# EAGLE library part AMPHENOL_24 (library CNTRL_BOARD)
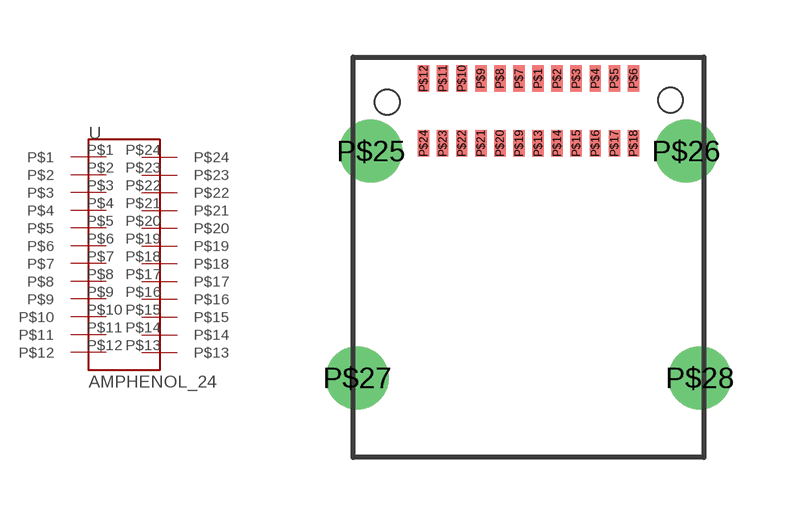
[diagram p12: symbol with the pads of 2X12; footprint 2X12]

Designator prefix -

## AMPHENOL_24  [2X12]
P$1  P$1
P$2  P$2
P$3  P$3
P$4  P$4
P$5  P$5
P$6  P$6
P$7  P$7
P$8  P$8
P$9  P$9
P$10  P$10
P$11  P$11
P$12  P$12
P$13  P$13
P$14  P$14
P$15  P$15
P$16  P$16
P$17  P$17
P$18  P$18
P$19  P$19
P$20  P$20
P$21  P$21
P$22  P$22
P$23  P$23
P$24  P$24

## Footprint 2X12 (pad centres in mm)
smd 0.3 x 0.7: P$1 0.25,0; P$2 0.75,0; P$3 1.25,0; P$4 1.75,0; P$5 2.25,0; P$6 2.75,0; P$7 -0.25,0; P$8 -0.75,0; P$9 -1.25,0; P$10 -1.75,0; P$11 -2.25,0; P$12 -2.75,0; P$13 0.25,-1.7; P$14 0.75,-1.7; P$15 1.25,-1.7; P$16 1.75,-1.7; P$17 2.25,-1.7; P$18 2.75,-1.7; P$19 -0.25,-1.7; P$20 -0.75,-1.7; P$21 -1.25,-1.7; P$22 -1.75,-1.7; P$23 -2.25,-1.7; P$24 -2.75,-1.7
drill 1.1: P$25 -4.13,-1.91; P$26 4.13,-1.91; P$27 -4.49,-7.86; P$28 4.49,-7.86
hole 0.65 at -3.7,-0.62
hole 0.65 at 3.72,-0.57